# EAGLE library part 691810120308 (library WR-TBL Spring Clamp)
WR-TBL Series 8101 - Screwless Push In 3.5mm pitch - 45° cable entry - THR KIND PROPERTIES Pitch 3.5 mm MATERIAL PROPERTIES Insulator Material PA4T Insulator Flammability Rating UL94 V-0 Insulator Color Black Spring Material Stainless Steel Pin Material Brass Pin Plating Tin over Nickel GENERAL INFORMATION Operating Temperature -40 up to +125 °C ELECTRICAL PROPERTIES IR cULus 7 A IR VDE 13.5 A Working Voltage [cULus] 300 V Working Voltage [VDE] 160 V Withstanding Voltage [cULus] 1600 V (AC) Withstanding Voltage [VDE] 1400 V (AC) Contact Resistance [cULus] 20 mΩ Contact Resistance [VDE] 20 mΩ Mechanical Properties Wire Strip Length 8 up to 9 (mm) Wire Properties Solid Wire Section (AWG) 24 to 18 (AWG) Solid Wire Section (Metric) 0.2 to 1 (mm²) Stranded Wire Section (AWG) 22 to 16 (AWG) Stranded Wire Section (Metric) 0.2 to 1.5 (mm²) CERTIFICATION cULus Approval E315414 VDE Approval 40055316 Packaging Properties Packaging Tape and Reel <https://www.we-online.com/components/media/o722798v209%206918101203xx_Multi-parts.jpg> Details see: www.we-online.com/en/components/products/WR-TBL_SERIES_8101_SCREWLESS_PUSH_IN_3_5MM_PITCH_45___CABLE_ENTRY_THR <www.we-online.com/catalog/WR-TBL_SERIES_8101_SCREWLESS_PUSH_IN_3_5MM_PITCH_45___CABLE_ENTRY_THR/?utm_source=eagle_model&utm_medium=description_link&utm_campaign=eisos_eagle> Created by Ella Wu 2023-06-13 2023(C) Wurth Elektronik
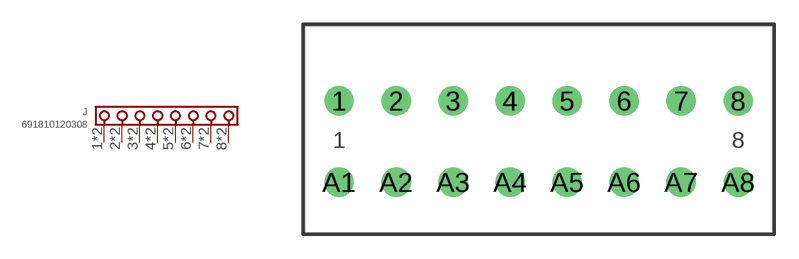
[diagram p188: symbol with the pads of 691810120308; footprint 691810120308]

Designator prefix J

## 691810120308 (DATASHEET-URL: https://www.we-online.com/redexpert/spec/691810120308?ae; IR-UL: 7A; IR-VDE: 13.5A; MOUNT: THR; PART-NUMBER: 691810120308; PINS: 8; PITCH: 3.5mm; TYPE: 45° Cable Entry; VALUE: 691810120308; WIRE: 22 to 16 (AWG) 0.2 to 1.5 (mm²); WORKING-VOLTAGE-UL: 300V; WORKING-VOLTAGE-VDE: 160V)  [691810120308]
1  1  pas
2  2  pas
3  3  pas
4  4  pas
5  5  pas
6  6  pas
7  7  pas
8  8  pas
A1  1  pas
A2  2  pas
A3  3  pas
A4  4  pas
A5  5  pas
A6  6  pas
A7  7  pas
A8  8  pas

## Footprint 691810120308 (pad centres in mm)
WR-TBL Series 8101 - Screwless Push In 3.5mm pitch - 45° cable entry - THR Pitch 3.5mm, THR, 8pins
drill 1.2: 1 -12.25,2.5; 2 -8.75,2.5; 3 -5.25,2.5; 4 -1.75,2.5; 5 1.75,2.5; 6 5.25,2.5; 7 8.75,2.5; 8 12.25,2.5; A1 -12.25,-2.5; A2 -8.75,-2.5; A3 -5.25,-2.5; A4 -1.75,-2.5; A5 1.75,-2.5; A6 5.25,-2.5; A7 8.75,-2.5; A8 12.25,-2.5